# Altium footprint library SRF4532TA900Y.PcbLib: 1 footprints
Each footprint in its own frame and in the unit in brackets; x right, y up, seen from the top. Pads: shape width x height; smd on the part's side, far side on the other; paste and mask are expansions set on the pad; w line width, h text height; cw(c..) or ccw(c..) is an arc to the next point about the centre after c.
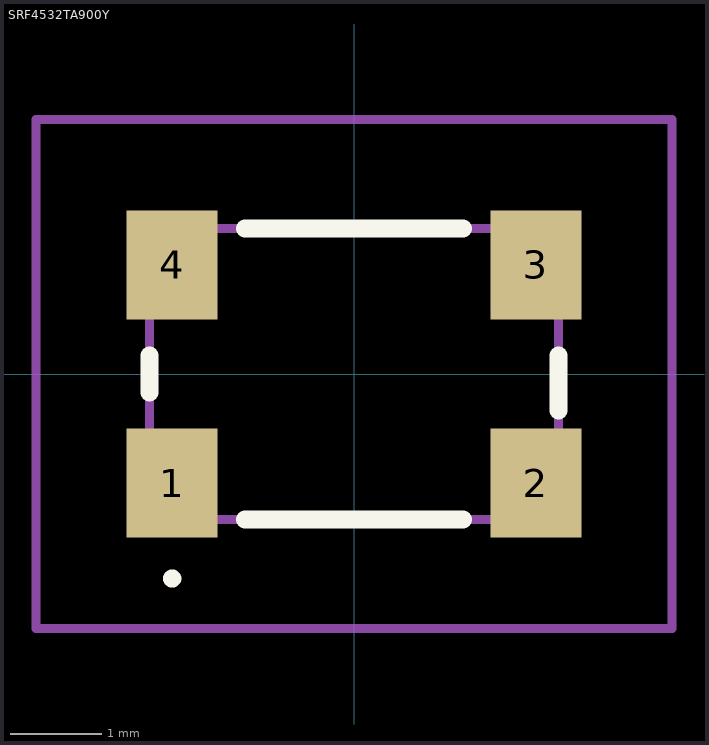
[diagram p0: the footprint, top view; thin cyan lines are the x and y axes]

## SRF4532TA900Y [mm]
pads (4):
  rect 1x1.2 smd: 1(-2,-1.2) 2(2,-1.2) 3(2,1.2) 4(-2,1.2)
Top Overlay:
  lines w0.1: -2,-2.3 -2,-2.3 ; -2,-2.3 ccw(c-2,-2.25) -2,-2.2 ; -2,-2.3 cw(c-2,-2.25) -2,-2.2 ; -2,-2.2 -2,-2.2
  lines w0.2: -2.25,-0.2 -2.25,0.2 ; -1.2,-1.6 1.2,-1.6 ; -1.2,1.6 1.2,1.6 ; 2.25,-0.4 2.25,0.2 ; 2.25,0.2 2.25,0.2
Mechanical 15:
  lines w0.1: -2.25,-1.6 2.25,-1.6 2.25,1.6 -2.25,1.6 -2.25,-1.6
Mechanical 20:
  lines w0.1: -3.5,-2.8 3.5,-2.8 3.5,2.8 -3.5,2.8 -3.5,-2.8